# EAGLE library part 74*85A (library 74)
4-bit Magnitude COMPARATOR
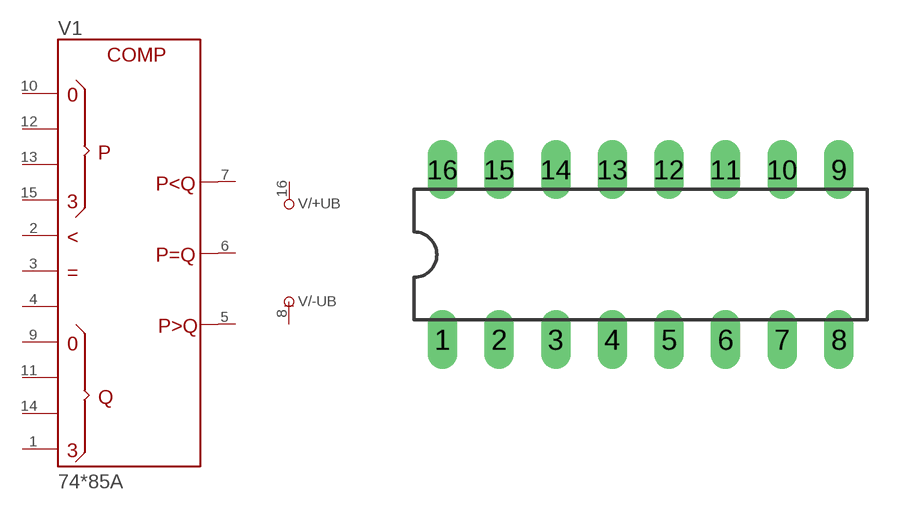
[diagram p28: symbol with the pads of DIL16; footprint DIL16]

Designator prefix V; gates /+UB=+UB /-UB=-UB 1=85A

## 7485AN  [DIL16]
1  1:Q3  in
2  1:PLTQ_  in
3  1:PEQQ_  in
4  1:PGTQ_  in
5  1:PGTQ  out
6  1:PEQQ  out
7  1:PLTQ  out
8  /-UB:-UB  pwr
9  1:Q0  in
10  1:P0  in
11  1:Q1  in
12  1:P1  in
13  1:P2  in
14  1:Q2  in
15  1:P3  in
16  /+UB:+UB  pwr

## Footprint DIL16 (pad centres in mm)
Dual In Line Package
drill 0.813 long: 1 -8.89,-3.81; 2 -6.35,-3.81; 3 -3.81,-3.81; 4 -1.27,-3.81; 5 1.27,-3.81; 6 3.81,-3.81; 7 6.35,-3.81; 8 8.89,-3.81; 9 8.89,3.81; 10 6.35,3.81; 11 3.81,3.81; 12 1.27,3.81; 13 -1.27,3.81; 14 -3.81,3.81; 15 -6.35,3.81; 16 -8.89,3.81